# Altium schematic symbol library SCH - DRIVER - LED - TI TPS92410D.SchLib: 1 symbol
Pins are listed as number, name and electrical type; pins without a type are passive.

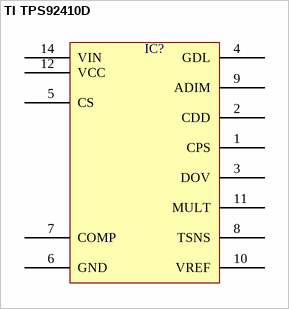
[diagram p0: symbol TI TPS92410D]

## TI TPS92410D
designator IC?  (value not drawn)
pins: 1 CPS, 2 CDD, 3 DOV, 4 GDL, 5 CS, 6 GND, 7 COMP, 8 TSNS, 9 ADIM, 10 VREF, 11 MULT, 12 VCC, 14 VIN